# EAGLE library part ESP32-WROVER-E/IE (library Harrington-ICs)
ESP32-WROVER-E/IE Espressif - ESP32 with 8MB PSRAM
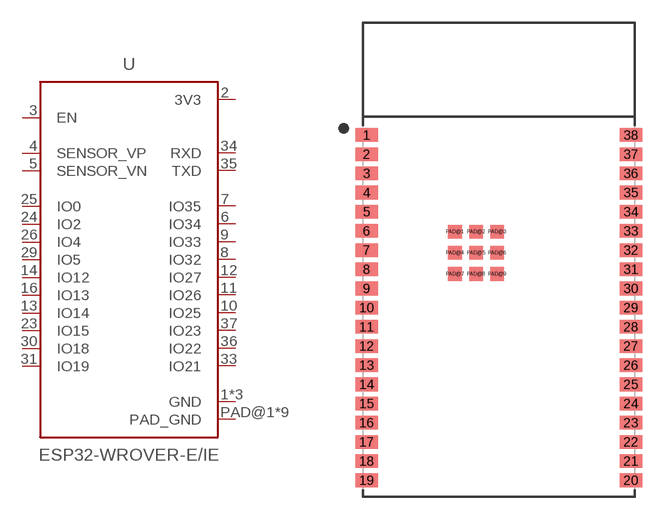
[diagram p0: symbol with the pads of ESP32-WROVER-E/IE; footprint ESP32-WROVER-E/IE]

Designator prefix U

## ESP32-WROVER-E/IE  [ESP32-WROVER-E/IE]
1  GND
2  3V3
3  EN
4  SENSOR_VP
5  SENSOR_VN
6  IO34
7  IO35
8  IO32
9  IO33
10  IO25
11  IO26
12  IO27
13  IO14
14  IO12
15  GND
16  IO13
23  IO15
24  IO2
25  IO0
26  IO4
29  IO5
30  IO18
31  IO19
33  IO21
34  RXD
35  TXD
36  IO22
37  IO23
38  GND
PAD@1  PAD_GND
PAD@2  PAD_GND
PAD@3  PAD_GND
PAD@4  PAD_GND
PAD@5  PAD_GND
PAD@6  PAD_GND
PAD@7  PAD_GND
PAD@8  PAD_GND
PAD@9  PAD_GND

## Footprint ESP32-WROVER-E/IE (pad centres in mm)
smd 1.5 x 0.9: 1 -8.75,11.43; 2 -8.75,10.16; 3 -8.75,8.89; 4 -8.75,7.62; 5 -8.75,6.35; 6 -8.75,5.08; 7 -8.75,3.81; 8 -8.75,2.54; 9 -8.75,1.27; 10 -8.75,0; 11 -8.75,-1.27; 12 -8.75,-2.54; 13 -8.75,-3.81; 14 -8.75,-5.08; 15 -8.75,-6.35; 16 -8.75,-7.62; 17 -8.75,-8.89; 18 -8.75,-10.16; 19 -8.75,-11.43; 20 8.75,-11.43; 21 8.75,-10.16; 22 8.75,-8.89; 23 8.75,-7.62; 24 8.75,-6.35; 25 8.75,-5.08; 26 8.75,-3.81; 27 8.75,-2.54; 28 8.75,-1.27; 29 8.75,0; 30 8.75,1.27; 31 8.75,2.54; 32 8.75,3.81; 33 8.75,5.08; 34 8.75,6.35; 35 8.75,7.62; 36 8.75,8.89; 37 8.75,10.16; 38 8.75,11.43
smd 0.9 x 0.9: PAD@1 -2.9,5.03; PAD@2 -1.5,5.03; PAD@3 -0.1,5.03; PAD@4 -2.9,3.63; PAD@5 -1.5,3.63; PAD@6 -0.1,3.63; PAD@7 -2.9,2.23; PAD@8 -1.5,2.23; PAD@9 -0.1,2.23